# EAGLE library part MPT-08-01-01-L-RA-LC (library avc)
Samtec PowerStrip/25 8 position terminal
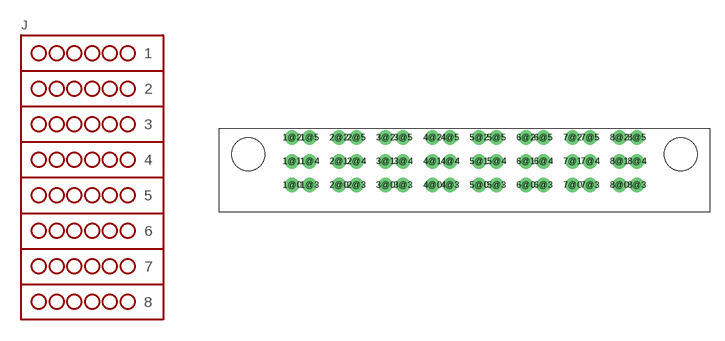
[diagram p0: symbol with the pads of MPT-08-XX-X-RA-XX; footprint MPT-08-XX-X-RA-XX]

Designator prefix J

## MPT-08-01-01-L-RA-LC (PARTNUM: MPT-08-01-01-L-RA-LC)  [MPT-08-XX-X-RA-XX]
1@0  1
1@1  1
1@2  1
1@3  1
1@4  1
1@5  1
2@0  2
2@1  2
2@2  2
2@3  2
2@4  2
2@5  2
3@0  3
3@1  3
3@2  3
3@3  3
3@4  3
3@5  3
4@0  4
4@1  4
4@2  4
4@3  4
4@4  4
4@5  4
5@0  5
5@1  5
5@2  5
5@3  5
5@4  5
5@5  5
6@0  6
6@1  6
6@2  6
6@3  6
6@4  6
6@5  6
7@0  7
7@1  7
7@2  7
7@3  7
7@4  7
7@5  7
8@0  1
8@1  1
8@2  1
8@3  1
8@4  1
8@5  8

## Footprint MPT-08-XX-X-RA-XX (pad centres in mm)
drill 1.04: 1@0 -18.44,-3.3; 1@1 -18.44,-0.76; 1@2 -18.44,1.78; 1@3 -16.56,-3.3; 1@4 -16.56,-0.76; 1@5 -16.56,1.78; 2@0 -13.44,-3.3; 2@1 -13.44,-0.76; 2@2 -13.44,1.78; 2@3 -11.56,-3.3; 2@4 -11.56,-0.76; 2@5 -11.56,1.78; 3@0 -8.44,-3.3; 3@1 -8.44,-0.76; 3@2 -8.44,1.78; 3@3 -6.56,-3.3; 3@4 -6.56,-0.76; 3@5 -6.56,1.78; 4@0 -3.44,-3.3; 4@1 -3.44,-0.76; 4@2 -3.44,1.78; 4@3 -1.56,-3.3; 4@4 -1.56,-0.76; 4@5 -1.56,1.78; 5@0 1.56,-3.3; 5@1 1.56,-0.76; 5@2 1.56,1.78; 5@3 3.44,-3.3; 5@4 3.44,-0.76; 5@5 3.44,1.78; 6@0 6.56,-3.3; 6@1 6.56,-0.76; 6@2 6.56,1.78; 6@3 8.44,-3.3; 6@4 8.44,-0.76; 6@5 8.44,1.78; 7@0 11.56,-3.3; 7@1 11.56,-0.76; 7@2 11.56,1.78; 7@3 13.44,-3.3; 7@4 13.44,-0.76; 7@5 13.44,1.78; 8@0 16.56,-3.3; 8@1 16.56,-0.76; 8@2 16.56,1.78; 8@3 18.44,-3.3; 8@4 18.44,-0.76; 8@5 18.44,1.78
hole 3.56 at -23.14,0
hole 3.56 at 23.14,0